# EAGLE library part TC7WBL3305CFK (library toshiba-custom)
IC USB SWITCH SPST DUAL US8
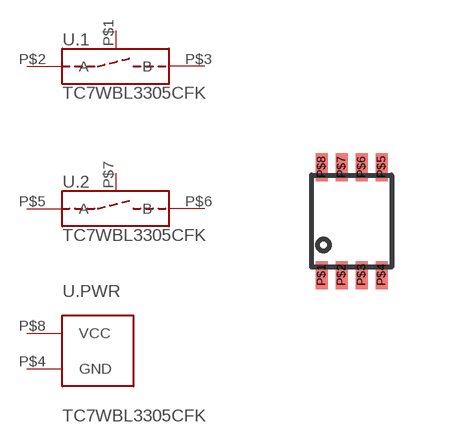
[diagram p0: symbol with the pads of SSOP8-P-0.50A; footprint SSOP8-P-0.50A]

Designator prefix U; gates .1=SWITCH-AH .2=SWITCH-AH .PWR=SWITCH-PWR

## TC7WBL3305CFK  [SSOP8-P-0.50A]
P$1  .1:OE  in
P$2  .1:A  pas
P$3  .1:B  pas
P$4  .PWR:GND  pwr
P$5  .2:A  pas
P$6  .2:B  pas
P$7  .2:OE  in
P$8  .PWR:VCC  pwr

## Footprint SSOP8-P-0.50A (pad centres in mm)
smd 0.3 x 0.7: P$1 -0.75,-1.35; P$2 -0.25,-1.35; P$3 0.25,-1.35; P$4 0.75,-1.35; P$5 0.75,1.35; P$6 0.25,1.35; P$7 -0.25,1.35; P$8 -0.75,1.35